# Altium schematic symbol library Vowstar_Connector.SchLib: 79 symbols
Pins are listed as number, name and electrical type; pins without a type are passive.

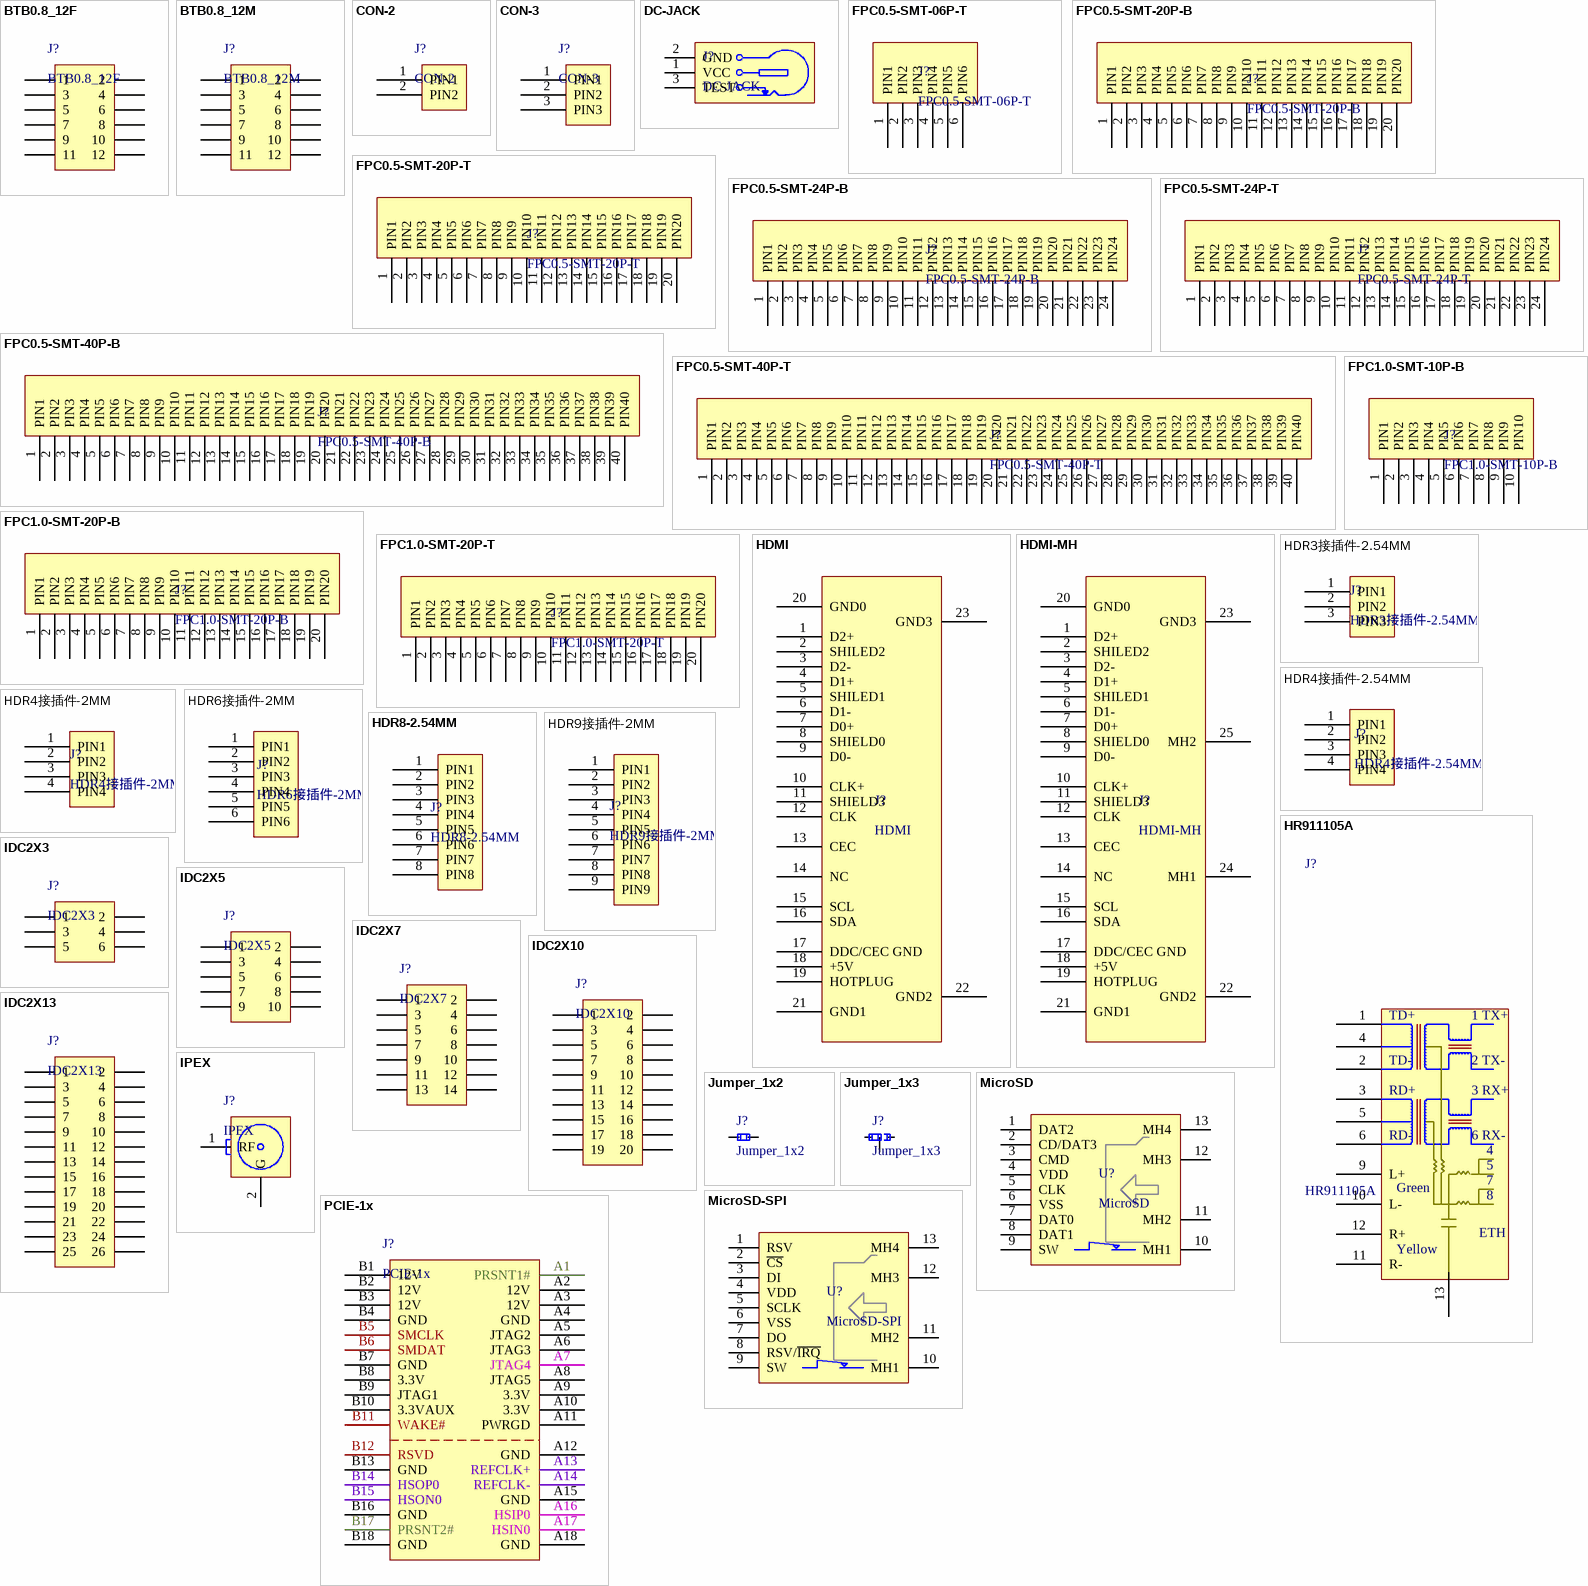
[diagram p0: symbols BTB0.8_12F to PCIE-1x]

## BTB0.8_12F
designator J?
BTB0.8-12M/F-6.0LG
footprint BTB0.8_12F (BTB0.8-12M/F-6.0LG)
pins: 1, 2, 3, 4, 5, 6, 7, 8, 9, 10, 11, 12

## BTB0.8_12M
designator J?
BTB0.8-12M/F-6.0LG
footprint BTB0.8_12M (BTB0.8-12M/F-6.0LG)
pins: 1, 2, 3, 4, 5, 6, 7, 8, 9, 10, 11, 12

## CON-2
designator J?
footprint CON2-2.0mm
footprint CON2-5.08mm-SCREW
pins: 1 PIN1, 2 PIN2

## CON-3
designator J?
footprint CON3-2.54mm-KF
footprint CON3-5.08mm-SCREW
pins: 1 PIN1, 2 PIN2, 3 PIN3

## DC-JACK
designator J?
电源插孔
footprint DC-JACK-6.2mm
footprint DC-JACK-6.2mm-ROUND (电源插孔)
footprint DC-JACK-SMD-2.5MM
pins: 1 VCC, 2 GND, 3 TEST

## FPC0.5-SMT-06P-T
designator J?
footprint FPC0.5-SMT-06P-T
footprint FPC0.5-SMT-06P-T-DRAWER (FPC0.5-SMT-06P-T)
pins: 1 PIN1, 2 PIN2, 3 PIN3, 4 PIN4, 5 PIN5, 6 PIN6

## FPC0.5-SMT-20P-B
designator J?
footprint FPC0.5-SMT-20P-B-DRAWER
footprint FPC0.5-SMT-20P-B
pins: 1 PIN1, 2 PIN2, 3 PIN3, 4 PIN4, 5 PIN5, 6 PIN6, 7 PIN7, 8 PIN8, 9 PIN9, 10 PIN10, 11 PIN11, 12 PIN12, 13 PIN13, 14 PIN14, 15 PIN15, 16 PIN16, 17 PIN17, 18 PIN18, 19 PIN19, 20 PIN20

## FPC0.5-SMT-20P-T
designator J?
footprint FPC0.5-SMT-20P-T-DRAWER
footprint FPC0.5-SMT-20P-T
pins: 1 PIN1, 2 PIN2, 3 PIN3, 4 PIN4, 5 PIN5, 6 PIN6, 7 PIN7, 8 PIN8, 9 PIN9, 10 PIN10, 11 PIN11, 12 PIN12, 13 PIN13, 14 PIN14, 15 PIN15, 16 PIN16, 17 PIN17, 18 PIN18, 19 PIN19, 20 PIN20

## FPC0.5-SMT-24P-B
designator J?
footprint FPC0.5-SMT-24P-B
footprint FPC0.5-SMT-24P-B-DRAWER
pins: 1 PIN1, 2 PIN2, 3 PIN3, 4 PIN4, 5 PIN5, 6 PIN6, 7 PIN7, 8 PIN8, 9 PIN9, 10 PIN10, 11 PIN11, 12 PIN12, 13 PIN13, 14 PIN14, 15 PIN15, 16 PIN16, 17 PIN17, 18 PIN18, 19 PIN19, 20 PIN20, 21 PIN21, 22 PIN22, 23 PIN23, 24 PIN24

## FPC0.5-SMT-24P-T
designator J?
footprint FPC0.5-SMT-24P-T
footprint FPC0.5-SMT-24P-T-DRAWER
pins: 1 PIN1, 2 PIN2, 3 PIN3, 4 PIN4, 5 PIN5, 6 PIN6, 7 PIN7, 8 PIN8, 9 PIN9, 10 PIN10, 11 PIN11, 12 PIN12, 13 PIN13, 14 PIN14, 15 PIN15, 16 PIN16, 17 PIN17, 18 PIN18, 19 PIN19, 20 PIN20, 21 PIN21, 22 PIN22, 23 PIN23, 24 PIN24

## FPC0.5-SMT-40P-B
designator J?
footprint FPC0.5-SMT-40P-B
footprint FPC0.5-SMT-40P-B-DRAWER (FPC0.5-SMT-40P-B)
pins: 1 PIN1, 2 PIN2, 3 PIN3, 4 PIN4, 5 PIN5, 6 PIN6, 7 PIN7, 8 PIN8, 9 PIN9, 10 PIN10, 11 PIN11, 12 PIN12, 13 PIN13, 14 PIN14, 15 PIN15, 16 PIN16, 17 PIN17, 18 PIN18, 19 PIN19, 20 PIN20, 21 PIN21, 22 PIN22, 23 PIN23, 24 PIN24, 25 PIN25, 26 PIN26, 27 PIN27, 28 PIN28, 29 PIN29, 30 PIN30, 31 PIN31, 32 PIN32, 33 PIN33, 34 PIN34, 35 PIN35, 36 PIN36, 37 PIN37, 38 PIN38, 39 PIN39, 40 PIN40

## FPC0.5-SMT-40P-T
designator J?
footprint FPC0.5-SMT-40P-T
footprint FPC0.5-SMT-40P-T-DRAWER (FPC0.5-SMT-40P-T)
pins: 1 PIN1, 2 PIN2, 3 PIN3, 4 PIN4, 5 PIN5, 6 PIN6, 7 PIN7, 8 PIN8, 9 PIN9, 10 PIN10, 11 PIN11, 12 PIN12, 13 PIN13, 14 PIN14, 15 PIN15, 16 PIN16, 17 PIN17, 18 PIN18, 19 PIN19, 20 PIN20, 21 PIN21, 22 PIN22, 23 PIN23, 24 PIN24, 25 PIN25, 26 PIN26, 27 PIN27, 28 PIN28, 29 PIN29, 30 PIN30, 31 PIN31, 32 PIN32, 33 PIN33, 34 PIN34, 35 PIN35, 36 PIN36, 37 PIN37, 38 PIN38, 39 PIN39, 40 PIN40

## FPC1.0-SMT-10P-B
designator J?
footprint FPC1.0-SMT-10P-B
pins: 1 PIN1, 2 PIN2, 3 PIN3, 4 PIN4, 5 PIN5, 6 PIN6, 7 PIN7, 8 PIN8, 9 PIN9, 10 PIN10

## FPC1.0-SMT-20P-B
designator J?
footprint FPC1.0-SMT-20P-B
pins: 1 PIN1, 2 PIN2, 3 PIN3, 4 PIN4, 5 PIN5, 6 PIN6, 7 PIN7, 8 PIN8, 9 PIN9, 10 PIN10, 11 PIN11, 12 PIN12, 13 PIN13, 14 PIN14, 15 PIN15, 16 PIN16, 17 PIN17, 18 PIN18, 19 PIN19, 20 PIN20

## FPC1.0-SMT-20P-T
designator J?
footprint FPC1.0-SMT-20P-T
pins: 1 PIN1, 2 PIN2, 3 PIN3, 4 PIN4, 5 PIN5, 6 PIN6, 7 PIN7, 8 PIN8, 9 PIN9, 10 PIN10, 11 PIN11, 12 PIN12, 13 PIN13, 14 PIN14, 15 PIN15, 16 PIN16, 17 PIN17, 18 PIN18, 19 PIN19, 20 PIN20

## HDMI
designator J?
footprint HDMI
pins: 1 D2+, 2 SHILED2, 3 D2-, 4 D1+, 5 SHILED1, 6 D1-, 7 D0+, 8 SHIELD0, 9 D0-, 10 CLK+, 11 SHIELD3, 12 CLK, 13 CEC, 14 NC, 15 SCL, 16 SDA, 17 DDC/CEC GND, 18 +5V, 19 HOTPLUG, 20 GND0, 21 GND1, 22 GND2, 23 GND3

## HDMI-MH
designator J?
pins: 1 D2+, 2 SHILED2, 3 D2-, 4 D1+, 5 SHILED1, 6 D1-, 7 D0+, 8 SHIELD0, 9 D0-, 10 CLK+, 11 SHIELD3, 12 CLK, 13 CEC, 14 NC, 15 SCL, 16 SDA, 17 DDC/CEC GND, 18 +5V, 19 HOTPLUG, 20 GND0, 21 GND1, 22 GND2, 23 GND3, 24 MH1, 25 MH2

## HDR3接插件-2.54MM
designator J?
footprint HDR3-2.54mm (485输入)
pins: 1 PIN1, 2 PIN2, 3 PIN3

## HDR4接插件-2.54MM
designator J?
footprint HDR4接插件-2.54MM
pins: 1 PIN1, 2 PIN2, 3 PIN3, 4 PIN4

## HDR4接插件-2MM
designator J?
footprint HDR4接插件-2MM
pins: 1 PIN1, 2 PIN2, 3 PIN3, 4 PIN4

## HDR6接插件-2MM
designator J?
footprint HDR6接插件-2MM
pins: 1 PIN1, 2 PIN2, 3 PIN3, 4 PIN4, 5 PIN5, 6 PIN6

## HDR8-2.54MM
designator J?
footprint HDR8-2.54MM
pins: 1 PIN1, 2 PIN2, 3 PIN3, 4 PIN4, 5 PIN5, 6 PIN6, 7 PIN7, 8 PIN8

## HDR9接插件-2MM
designator J?
footprint HDR9接插件-2MM
pins: 1 PIN1, 2 PIN2, 3 PIN3, 4 PIN4, 5 PIN5, 6 PIN6, 7 PIN7, 8 PIN8, 9 PIN9

## HR911105A
designator J?
footprint HR911105A
footprint HR911105A_N
pins: 1, 2, 3, 4, 5, 6, 9 L+, 10 L-, 11 R-, 12 R+, 13
2 alternate drawings of the same symbol
text: TD+; 1 TX+; TD-; 2 TX-; RD+; 3 RX+; RD-; 6 RX-; 7; Green; 8; ETH; Yellow

## IDC2X3
designator J?
footprint IDC2X3S-2.54MM (IDC2X3-2.54MM)
pins: 1, 2, 3, 4, 5, 6

## IDC2X5
designator J?
footprint IDC2X5P-2.0mm
footprint IDC2X5S-2.0mm
footprint IDC2X5S-2.54MM (IDC2X5-2.54MM)
pins: 1, 2, 3, 4, 5, 6, 7, 8, 9, 10

## IDC2X7
designator J?
footprint IDC2X7S-2.0mm
footprint IDC2X7S-2.54MM (IDC2X7-2.54MM)
footprint MOLEX_878311420_HDR_2X7_2mm (2.00mm Pitch, Milli-Grid PCB Header, Dual Row, Vertical, Through Hole, Shrouded, 14  Circuits, 0.38μm Gold (Au) Plating, with Center Polarization Slot, with Locking Window,  without PCB Locator, Tube)
pins: 1, 2, 3, 4, 5, 6, 7, 8, 9, 10, 11, 12, 13, 14

## IDC2X10
designator J?
footprint IDC2X10S-2.0mm
footprint IDC2X10P-2.0MM
pins: 1, 2, 3, 4, 5, 6, 7, 8, 9, 10, 11, 12, 13, 14, 15, 16, 17, 18, 19, 20

## IDC2X13
designator J?
footprint IDC2X13P-2.54MM (Connector; Header; 13x2 Position)
pins: 1, 2, 3, 4, 5, 6, 7, 8, 9, 10, 11, 12, 13, 14, 15, 16, 17, 18, 19, 20, 21, 22, 23, 24, 25, 26

## IPEX
designator J?
IPEX RF connector
footprint IPEX_3x3mm (U.FL-R-SMT)
pins: 1 RF "RF microwave signal", 2 G "Ground"

## Jumper_1x2
designator J?
footprint Jumper_1x2_2MM (Jumper)
footprint Jumper_1x2_2.54MM (Jumper)
pins: 1, 2

## Jumper_1x3
designator J?
footprint Jumper_1x3_2.54MM (Jumper)
footprint Jumper_1x3_2MM (Jumper)
pins: 1, 2, 3

## MicroSD
designator U?
footprint MicroSD-1 (MicroSD)
pins: 1 DAT2, 2 CD/DAT3, 3 CMD, 4 VDD, 5 CLK, 6 VSS, 7 DAT0, 8 DAT1, 9 SW, 10 MH1, 11 MH2, 12 MH3, 13 MH4

## MicroSD-SPI
designator U?
footprint MicroSD-1 (MicroSD)
pins: 1 RSV, 2 ~{CS}, 3 DI, 4 VDD, 5 SCLK, 6 VSS, 7 DO, 8 RSV/~{IRQ}, 9 SW, 10 MH1, 11 MH2, 12 MH3, 13 MH4

## PCIE-1x
designator J?
footprint PCIE-1x
pins: A1 PRSNT1# "Hot plug presence detect", A2 12V "+12 volt power", A3 12V "+12 volt power", A4 GND "Ground", A5 JTAG2 "TCK", A6 JTAG3 "TDI", A7 JTAG4 "TDO", A8 JTAG5 "TMS", A9 3.3V "+3.3 volt power", A10 3.3V "+3.3 volt power", A11 PWRGD "Power Good", A12 GND "Ground", A13 REFCLK+ "Reference Clock", A14 REFCLK- "Differential pair", A15 GND "Ground", A16 HSIP0 "Receiver Lane 0,", A17 HSIN0 "Differential pair", A18 GND "Ground", B1 12V "+12 volt power", B2 12V "+12 volt power", B3 12V "+12 volt power", B4 GND "Ground", B5 SMCLK "SMBus clock", B6 SMDAT "SMBus data", B7 GND "Ground", B8 3.3V "+3.3 volt power", B9 JTAG1 "+TRST#", B10 3.3VAUX "3.3v volt power", B11 WAKE# "Link Reactivation", B12 RSVD "Reserved", B13 GND "Ground", B14 HSOP0 "Transmitter Lane 0,", B15 HSON0 "Differential pair", B16 GND "Ground", B17 PRSNT2# "Hotplug detect", B18 GND "Ground"

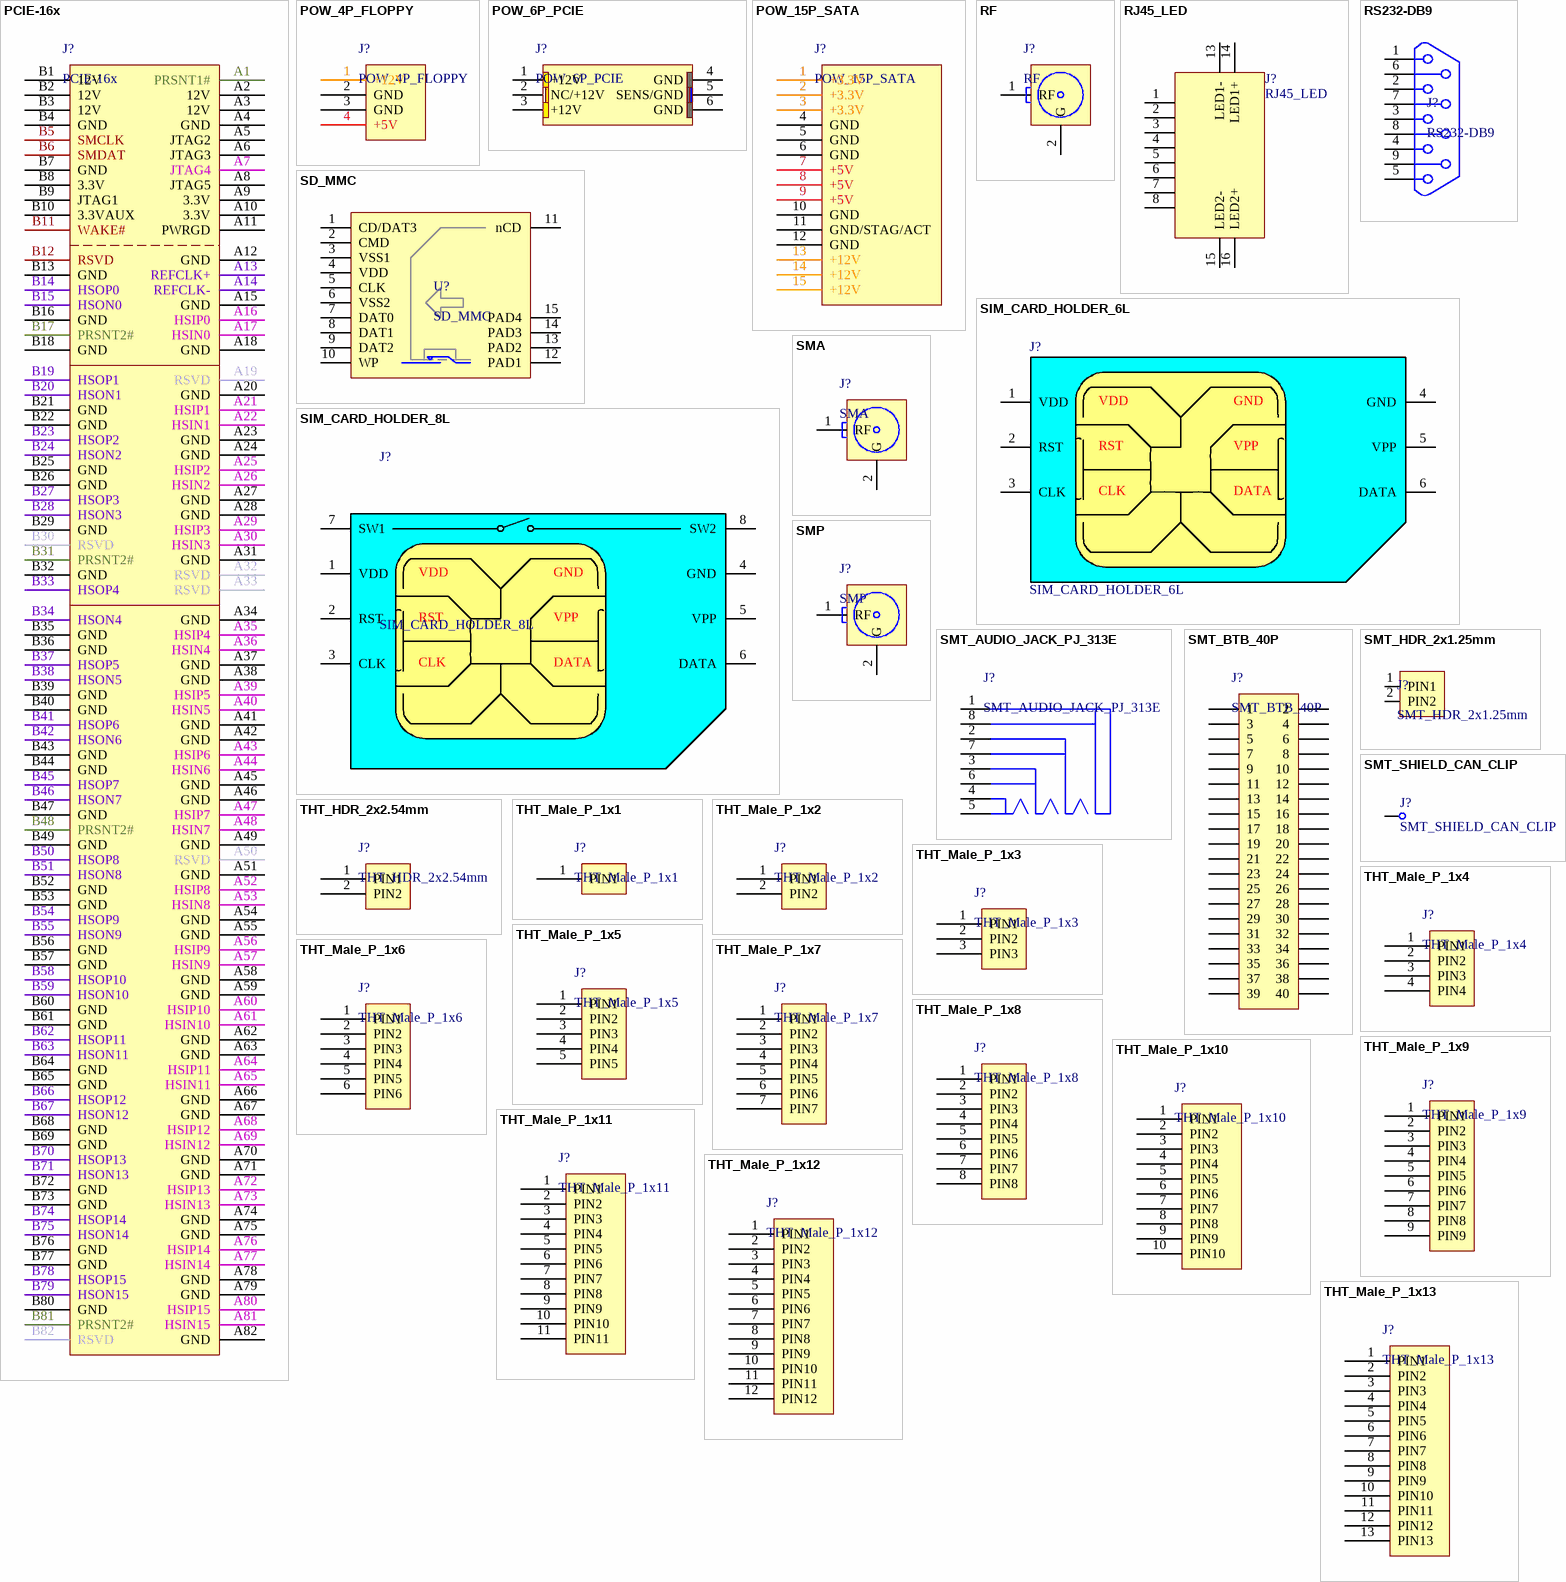
[diagram p1: symbols PCIE-16x to THT_Male_P_1x13]

## PCIE-16x
designator J?
footprint PCIE-16x-TH (PCIE-16x)
footprint PCIE-16x-TH-LONG (PCIE-16x)
pins: A1 PRSNT1# "Hot plug presence detect", A2 12V "+12 volt power", A3 12V "+12 volt power", A4 GND "Ground", A5 JTAG2 "TCK", A6 JTAG3 "TDI", A7 JTAG4 "TDO", A8 JTAG5 "TMS", A9 3.3V "+3.3 volt power", A10 3.3V "+3.3 volt power", A11 PWRGD "Power Good", A12 GND "Ground", A13 REFCLK+ "Reference Clock", A14 REFCLK- "Differential pair", A15 GND "Ground", A16 HSIP0 "Receiver Lane 0,", A17 HSIN0 "Differential pair", A18 GND "Ground", A19 RSVD "Reserved", A20 GND "Ground", A21 HSIP1 "Receiver Lane 1,", A22 HSIN1 "Differential pair", A23 GND "Ground", A24 GND "Ground", A25 HSIP2 "Receiver Lane 2,", A26 HSIN2 "Differential pair", A27 GND "Ground", A28 GND "Ground", A29 HSIP3 "Receiver Lane 3,", A30 HSIN3 "Differential pair", A31 GND "Ground", A32 RSVD "Reserved", A33 RSVD "Reserved", A34 GND "Ground", A35 HSIP4 "Receiver Lane 4,", A36 HSIN4 "Differential pair", A37 GND "Ground", A38 GND "Ground", A39 HSIP5 "Receiver Lane 5,", A40 HSIN5 "Differential pair", A41 GND "Ground", A42 GND "Ground", A43 HSIP6 "Receiver Lane 6,", A44 HSIN6 "Differential pair", A45 GND "Ground", A46 GND "Ground", A47 HSIP7 "Receiver Lane 7,", A48 HSIN7 "Differential pair", A49 GND "Ground", A50 RSVD "Reserved", A51 GND "Ground", A52 HSIP8 "Receiver Lane 8,", A53 HSIN8 "Differential pair", A54 GND "Ground", A55 GND "Ground", A56 HSIP9 "Receiver Lane 9,", A57 HSIN9 "Differential pair", A58 GND "Ground", A59 GND "Ground", A60 HSIP10 "Receiver Lane 10,", A61 HSIN10 "Differential pair", A62 GND "Ground", A63 GND "Ground", A64 HSIP11 "Receiver Lane 11,", A65 HSIN11 "Differential pair", A66 GND "Ground", A67 GND "Ground", A68 HSIP12 "Receiver Lane 12,", A69 HSIN12 "Differential pair", A70 GND "Ground", A71 GND "Ground", A72 HSIP13 "Receiver Lane 13,", A73 HSIN13 "Differential pair", A74 GND "Ground", A75 GND "Ground", A76 HSIP14 "Receiver Lane 14,", A77 HSIN14 "Differential pair", A78 GND "Ground", A79 GND "Ground", A80 HSIP15 "Receiver Lane 15,", A81 HSIN15 "Differential pair", A82 GND "Ground", B1 12V "+12 volt power", B2 12V "+12 volt power", B3 12V "+12 volt power", B4 GND "Ground", B5 SMCLK "SMBus clock", B6 SMDAT "SMBus data", B7 GND "Ground", B8 3.3V "+3.3 volt power", B9 JTAG1 "+TRST#", B10 3.3VAUX "3.3v volt power", B11 WAKE# "Link Reactivation", B12 RSVD "Reserved", B13 GND "Ground", B14 HSOP0 "Transmitter Lane 0,", B15 HSON0 "Differential pair", B16 GND "Ground", B17 PRSNT2# "Hotplug detect", B18 GND "Ground", B19 HSOP1 "Transmitter Lane 1,", B20 HSON1 "Differential pair", B21 GND "Ground", B22 GND "Ground", B23 HSOP2 "Transmitter Lane 2,", B24 HSON2 "Differential pair", B25 GND "Ground", B26 GND "Ground", B27 HSOP3 "Transmitter Lane 3,", B28 HSON3 "Differential pair", B29 GND "Ground", B30 RSVD "Reserved", B31 PRSNT2# "Hot plug detect", B32 GND "Ground", B33 HSOP4 "Transmitter Lane 4,", B34 HSON4 "Differential pair", B35 GND "Ground", B36 GND "Ground", B37 HSOP5 "Transmitter Lane 5,", B38 HSON5 "Differential pair", B39 GND "Ground", B40 GND "Ground", B41 HSOP6 "Transmitter Lane 6,", B42 HSON6 "Differential pair", B43 GND "Ground", B44 GND "Ground", B45 HSOP7 "Transmitter Lane 7,", B46 HSON7 "Differential pair", B47 GND "Ground", B48 PRSNT2# "Hot plug detect", B49 GND "Ground", B50 HSOP8 "Transmitter Lane 8,", B51 HSON8 "Differential pair", B52 GND "Ground", B53 GND "Ground", B54 HSOP9 "Transmitter Lane 9,", B55 HSON9 "Differential pair", B56 GND "Ground", B57 GND "Ground", B58 HSOP10 "Transmitter Lane 10,", B59 HSON10 "Differential pair", B60 GND "Ground", B61 GND "Ground", B62 HSOP11 "Transmitter Lane 11,", B63 HSON11 "Differential pair", B64 GND "Ground", B65 GND "Ground", B66 HSOP12 "Transmitter Lane 12,", B67 HSON12 "Differential pair", B68 GND "Ground", B69 GND "Ground", B70 HSOP13 "Transmitter Lane 13,", B71 HSON13 "Differential pair", B72 GND "Ground", B73 GND "Ground", B74 HSOP14 "Transmitter Lane 14,", B75 HSON14 "Differential pair", B76 GND "Ground", B77 GND "Ground", B78 HSOP15 "Transmitter Lane 15,", B79 HSON15 "Differential pair", B80 GND "Ground", B81 PRSNT2# "Hot plug present detect", B82 RSVD "Reserved/Hot Plug Detect"

## POW_4P_FLOPPY
designator J?
4P power connector for hard drive or floppy
footprint POW_4P_FLOPPY (4P power connector for hard drive or floppy)
footprint POW_4P_FLOPPY_BENT (4P power connector for hard drive or floppy)
pins: 1 +12V, 2 GND, 3 GND, 4 +5V

## POW_6P_PCIE
designator J?
PCIE Power connector 6 pin. Mini-Fit Jr. Power Connectors; Manufacturer_Name: Molex; Allied_Number: 70190992; Datasheet Link: https://www.molex.com/webdocs/datasheets/pdf/en-us/0039301060_PCB_HEADERS.pdf; Manufacturer_Part_Number: 39-30-1060; Mouser Part Number: 538-39-30-1060; Mouser Price/Stock: https://www.mouser.com/Search/Refine.aspx?Keyword=538-39-30-1060; RS Part Number: 1891360; RS Price/Stock: http://uk.rs-online.com/web/p/products/1891360; Allied Price/Stock: https://www.alliedelec.com/molex-incorporated-39-30-1060/70190992/
footprint MOLEX_039301060_PCIE_6P (Mini-Fit Jr. Power Connectors Header, Dual Row, Right-Angle, with Snap-in Plastic Peg PCB Lock, 6  Circuits, PA Polyamide Nylon 6/6 94V-2, 2.54μm Matte Tin (Sn) Plating)
pins: 1 +12V "+12V Power", 2 NC/+12V  "+12 V or not connected", 3 +12V "+12V Power", 4 GND "Ground", 5 SENS/GND "Power Sense feedback or Ground", 6 GND "Ground"

## POW_15P_SATA
designator J?
15P power connector for serial ata interface
footprint POW_15P_SATA (15P power connector for serial ata interface)
footprint POW_15P_SATA_BENT (15P power connector for serial ata interface)
pins: 1 +3.3V, 2 +3.3V, 3 +3.3V, 4 GND, 5 GND, 6 GND, 7 +5V, 8 +5V, 9 +5V, 10 GND, 11 GND/STAG/ACT, 12 GND, 13 +12V, 14 +12V, 15 +12V

## RF
designator J?
Generic RF connector
footprint ROSENBERGER_19S102_40ML5_SMP (Rosenberger SMP  RF CONNECTOR 0-40GHz STRAIGHT PLUG PCB  LIMITED DETENT, SMD,)
footprint MOLEX_732520090_SMK (2.92mm SMK connector, 50 Ohms, Precision Test Connector, 2.92mm PCB Jack, Field Replaceable, 2 Hole  Flange, with 2 Screws 4.76mm, PCB Thickness 0.76-2.44mm)
footprint MOLEX_733910083_SMA_RIGHT_ANGLE (SMA RF Connectors 50 Ohms, SMA Right Angle PCB Jack, 0.02μm Gold (Au) Plated)
footprint IPEX_3x3mm (U.FL-R-SMT)
pins: 1 RF "RF microwave signal", 2 G "Ground"

## RJ45_LED
designator J?
RJ45 With two LEDs
footprint RJ45_9803_LED (RJ45 9803 With LED)
pins: 1, 2, 3, 4, 5, 6, 7, 8, 13 LED1-, 14 LED1+, 15 LED2-, 16 LED2+

## RS232-DB9
designator J?
pins: 1, 2, 3, 4, 5, 6, 7, 8, 9

## SD_MMC
designator U?
SD and MMC CARD Holder
footprint SD_MMC (SD and MMC CARD Holder)
pins: 1 CD/DAT3, 2 CMD, 3 VSS1, 4 VDD, 5 CLK, 6 VSS2, 7 DAT0, 8 DAT1, 9 DAT2, 10 WP, 11 nCD, 12 PAD1, 13 PAD2, 14 PAD3, 15 PAD4

## SIM_CARD_HOLDER_6L
designator J?
SIM CARD HOLDER
footprint SIMCARD_HOLDER_6L_CLAMSHELL (Simcard holder)
pins: 1 VDD, 2 RST, 3 CLK, 4 GND, 5 VPP, 6 DATA
2 alternate drawings of the same symbol

## SIM_CARD_HOLDER_8L
designator J?
SIM CARD HOLDER
footprint SIMCARD_HOLDER_8L (Simcard holder)
pins: 1 VDD, 2 RST, 3 CLK, 4 GND, 5 VPP, 6 DATA, 7 SW1, 8 SW2

## SMA
designator J?
SMA RF Connectors, 50 Ohms, SMA PCB Jack, 0.02μm Gold (Au) Plated
footprint MOLEX_733910083_SMA_RIGHT_ANGLE (SMA RF Connectors 50 Ohms, SMA Right Angle PCB Jack, 0.02μm Gold (Au) Plated)
pins: 1 RF "RF microwave signal", 2 G "Ground"

## SMP
designator J?
SMP STRAIGHT PLUG PCB / LIMITED DETENT RF Connector
footprint ROSENBERGER_19S102_40ML5_SMP (Rosenberger SMP  RF CONNECTOR 0-40GHz STRAIGHT PLUG PCB  LIMITED DETENT, SMD,)
pins: 1 RF "RF microwave signal", 2 G "Ground"

## SMT_AUDIO_JACK_PJ_313E
designator J?
PJ-313E 3.5mm SMT Audio Jack
footprint SMT_AUDIO_JACK_PJ_313E (PJ-313E 3.5mm SMT Audio Jack)
pins: 1 GND/MIC "Ground or Microphone", 2 MIC/GND "Microphone or Ground", 3 RCH "Right channel", 4 LCH "Left channel", 5 LCH "Left channel", 6 RCH "Right channel", 7 MIC/GND "Microphone or Ground", 8 GND/MIC "Ground or Microphone"

## SMT_BTB_40P
designator J?
SlimStack Board-to-Board Connector, Surface mount, 40 pins
footprint MOLEX_533094071_BTB_40P (SlimStack Board-to-Board Connector, 0.80mm Pitch, Floating Series, Plug, 5.65 or  6.65mm Mated Height, 40 Circuits, Right-Angle, with Boss)
pins: 1, 2, 3, 4, 5, 6, 7, 8, 9, 10, 11, 12, 13, 14, 15, 16, 17, 18, 19, 20, 21, 22, 23, 24, 25, 26, 27, 28, 29, 30, 31, 32, 33, 34, 35, 36, 37, 38, 39, 40

## SMT_HDR_2x1.25mm
designator J?
Surface mount header 2x1.25mm
footprint SMT_HDR_2x1.25mm (Surface mount header 2x1.25mm)
pins: 1 PIN1, 2 PIN2

## SMT_SHIELD_CAN_CLIP
designator J?
Surface mount shield can clip
footprint SMT_SHIELD_CAN_CLIP_92_1370 (Surface mount shield can clip 92-1370)
pins: 1

## THT_HDR_2x2.54mm
designator J?
KK 254 Solid Header, Vertical, with Friction Lock, 2 Circuits, Gold (Au) Plating, 2 pin, 2.54mm
footprint MOLEX_022112022_HDR_KK254 (SlimStack Board-to-Board ConneKK 254 Solid Header, Vertical, with Friction Lock, 2 Circuits, Gold (Au) Plating)
pins: 1 PIN1, 2 PIN2

## THT_Male_P_1x1
designator J?
THT Male pin header strip 1x1
footprint THT_Male_P_1x1-2.54mm (THT Male pin header strip 1x1 2.54mm pitch)
pins: 1 PIN1
1 alternate drawing of the same symbol

## THT_Male_P_1x2
designator J?
THT Male pin header strip 1x2
footprint THT_Male_P_1x2-2.54mm (THT Male pin header strip 1x2 2.54mm pitch)
pins: 1 PIN1, 2 PIN2

## THT_Male_P_1x3
designator J?
THT Male pin header strip 1x3
footprint THT_Male_P_1x3-2.54mm (THT Male pin header strip 1x3 2.54mm pitch)
pins: 1 PIN1, 2 PIN2, 3 PIN3

## THT_Male_P_1x4
designator J?
THT Male pin header strip 1x4
footprint THT_Male_P_1x4-2.54mm (THT Male pin header strip 1x4 2.54mm pitch)
pins: 1 PIN1, 2 PIN2, 3 PIN3, 4 PIN4

## THT_Male_P_1x5
designator J?
THT Male pin header strip 1x5
footprint THT_Male_P_1x5-2.54mm (THT Male pin header strip 1x5 2.54mm pitch)
pins: 1 PIN1, 2 PIN2, 3 PIN3, 4 PIN4, 5 PIN5

## THT_Male_P_1x6
designator J?
THT Male pin header strip 1x6
footprint THT_Male_P_1x6-2.54mm (THT Male pin header strip 1x6 2.54mm pitch)
pins: 1 PIN1, 2 PIN2, 3 PIN3, 4 PIN4, 5 PIN5, 6 PIN6

## THT_Male_P_1x7
designator J?
THT Male pin header strip 1x7
footprint THT_Male_P_1x7-2.54mm (THT Male pin header strip 1x7 2.54mm pitch)
pins: 1 PIN1, 2 PIN2, 3 PIN3, 4 PIN4, 5 PIN5, 6 PIN6, 7 PIN7

## THT_Male_P_1x8
designator J?
THT Male pin header strip 1x8
footprint THT_Male_P_1x8-2.54mm (THT Male pin header strip 1x8 2.54mm pitch)
pins: 1 PIN1, 2 PIN2, 3 PIN3, 4 PIN4, 5 PIN5, 6 PIN6, 7 PIN7, 8 PIN8

## THT_Male_P_1x9
designator J?
THT Male pin header strip 1x9
footprint THT_Male_P_1x9-2.54mm (THT Male pin header strip 1x9 2.54mm pitch)
pins: 1 PIN1, 2 PIN2, 3 PIN3, 4 PIN4, 5 PIN5, 6 PIN6, 7 PIN7, 8 PIN8, 9 PIN9

## THT_Male_P_1x10
designator J?
THT Male pin header strip 1x10
footprint THT_Male_P_1x10-2.54mm (THT Male pin header strip 1x10 2.54mm pitch)
pins: 1 PIN1, 2 PIN2, 3 PIN3, 4 PIN4, 5 PIN5, 6 PIN6, 7 PIN7, 8 PIN8, 9 PIN9, 10 PIN10

## THT_Male_P_1x11
designator J?
THT Male pin header strip 1x11
footprint THT_Male_P_1x11-2.54mm (THT Male pin header strip 1x11 2.54mm pitch)
pins: 1 PIN1, 2 PIN2, 3 PIN3, 4 PIN4, 5 PIN5, 6 PIN6, 7 PIN7, 8 PIN8, 9 PIN9, 10 PIN10, 11 PIN11

## THT_Male_P_1x12
designator J?
THT Male pin header strip 1x12
footprint THT_Male_P_1x12-2.54mm (THT Male pin header strip 1x12 2.54mm pitch)
pins: 1 PIN1, 2 PIN2, 3 PIN3, 4 PIN4, 5 PIN5, 6 PIN6, 7 PIN7, 8 PIN8, 9 PIN9, 10 PIN10, 11 PIN11, 12 PIN12

## THT_Male_P_1x13
designator J?
THT Male pin header strip 1x13
footprint THT_Male_P_1x13-2.54mm (THT Male pin header strip 1x13 2.54mm pitch)
pins: 1 PIN1, 2 PIN2, 3 PIN3, 4 PIN4, 5 PIN5, 6 PIN6, 7 PIN7, 8 PIN8, 9 PIN9, 10 PIN10, 11 PIN11, 12 PIN12, 13 PIN13

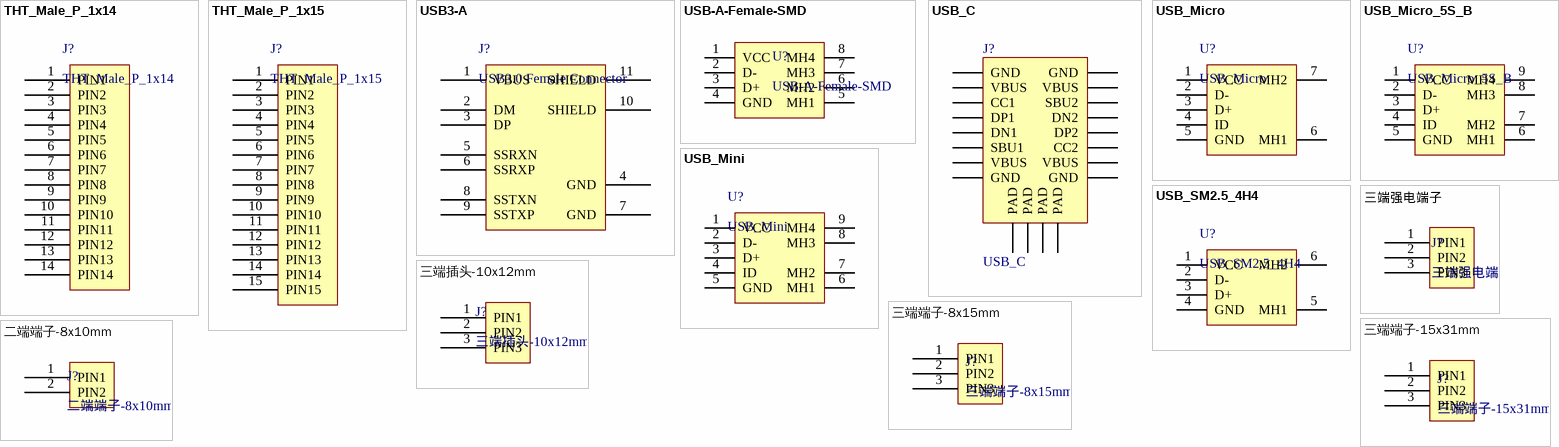
[diagram p2: symbols THT_Male_P_1x14 to 二端端子-8x10mm]

## THT_Male_P_1x14
designator J?
THT Male pin header strip 1x14
footprint THT_Male_P_1x14-2.54mm (THT Male pin header strip 1x14 2.54mm pitch)
pins: 1 PIN1, 2 PIN2, 3 PIN3, 4 PIN4, 5 PIN5, 6 PIN6, 7 PIN7, 8 PIN8, 9 PIN9, 10 PIN10, 11 PIN11 "Power supply", 12 PIN12 "Power supply", 13 PIN13 "Power supply", 14 PIN14 "Power supply"

## THT_Male_P_1x15
designator J?
THT Male pin header strip 1x15
footprint THT_Male_P_1x15-2.54mm (THT Male pin header strip 1x15 2.54mm pitch)
pins: 1 PIN1, 2 PIN2, 3 PIN3, 4 PIN4, 5 PIN5, 6 PIN6, 7 PIN7, 8 PIN8, 9 PIN9, 10 PIN10, 11 PIN11 "Power supply", 12 PIN12 "Power supply", 13 PIN13 "Power supply", 14 PIN14 "Power supply", 15 PIN15 "Power supply"

## USB3-A
designator J?, comment USB3.0 Female Connector
footprint USB3-A (USB3.0 Connector)
pins: 1 VBUS, 2 DM, 3 DP, 4 GND, 5 SSRXN, 6 SSRXP, 7 GND, 8 SSTXN, 9 SSTXP, 10 SHIELD, 11 SHIELD

## USB-A-Female-SMD
designator U?
footprint USB-A-SMD
pins: 1 VCC, 2 D-, 3 D+, 4 GND, 5 MH1, 6 MH2, 7 MH3, 8 MH4

## USB_C
designator J?
USB type C 3.1 connector
footprint USB_C_U262-16XN-4BVC11 (U262-16XN-4BVC11 USB TYPE-C FEMALE)
pins: 0 PAD, 1 PAD, 2 PAD, 3 PAD, A1 GND, A4 VBUS, A5 CC1, A6 DP1, A7 DN1, A8 SBU1, A9 VBUS, A12 GND, B1 GND, B4 VBUS, B5 CC2, B6 DP2, B7 DN2, B8 SBU2, B9 VBUS, B12 GND

## USB_Micro
designator U?
USB micro female
footprint USB_Micro_Reverse (Micro USB Dock 5 Pin Reverse)
footprint USB_Micro_Standard (Micro USB Dock 5 Pin Standard)
pins: 1 VCC, 2 D-, 3 D+, 4 ID, 5 GND, 6 MH1, 7 MH2

## USB_Micro_5S_B
designator U?
USB micro female SMT with 4 fixed foot
footprint USB_MICRO_5S_B (USB Micro SMT 5S B)
footprint USB_MICRO_SMT_2PIN (USB MICRO SMT 2PIN)
pins: 1 VCC, 2 D-, 3 D+, 4 ID, 5 GND, 6 MH1, 7 MH2, 8 MH3, 9 MH4

## USB_Mini
designator U?
USB mini female
footprint USB_MINI1 (USB Mini SMT)
pins: 1 VCC, 2 D-, 3 D+, 4 ID, 5 GND, 6 MH1, 7 MH2, 8 MH3, 9 MH4

## USB_SM2.5_4H4
designator U?
USB SM2.5-4H4 Connector
footprint USB_SM2.5_4H4 (Connector; USB1.1, Type A, SM; 4 Position; Right Angle)
pins: 1 VCC, 2 D-, 3 D+, 4 GND, 5 MH1, 6 MH2

## 三端强电端子
designator J?
footprint 三端强电端子
pins: 1 PIN1, 2 PIN2, 3 PIN3

## 三端插头-10x12mm
designator J?
footprint 三端插头-10x12mm (三端插头10x12mm)
pins: 1 PIN1, 2 PIN2, 3 PIN3

## 三端端子-8x15mm
designator J?
footprint 三端端子-8x15mm
pins: 1 PIN1, 2 PIN2, 3 PIN3

## 三端端子-15x31mm
designator J?
footprint 三端端子-15x31mm
pins: 1 PIN1, 2 PIN2, 3 PIN3

## 二端端子-8x10mm
designator J?
footprint 二端端子-8x10mm (二端端子-8x15mm)
pins: 1 PIN1, 2 PIN2